# EAGLE library part TPS61016 (library texas)
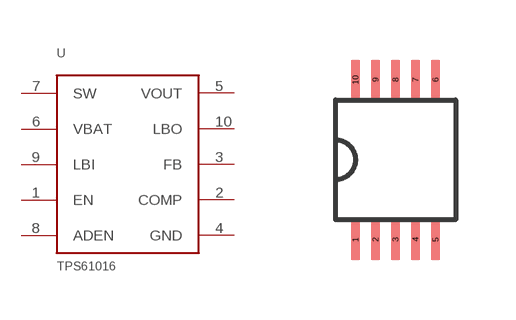
[diagram p2: symbol with the pads of VSSOP10; footprint VSSOP10]

Designator prefix -

## TPS61016  [VSSOP10]
1  EN
2  COMP
3  FB
4  GND
5  VOUT
6  VBAT
7  SW
8  ADEN
9  LBI
10  LBO

## Footprint VSSOP10 (pad centres in mm)
smd 0.22 x 1: 1 -1,-2; 2 -0.5,-2; 3 0,-2; 4 0.5,-2; 5 1,-2; 6 1,2; 7 0.5,2; 8 0,2; 9 -0.5,2; 10 -1,2